# EAGLE library part ICM7228A (library RadioStack_v2)
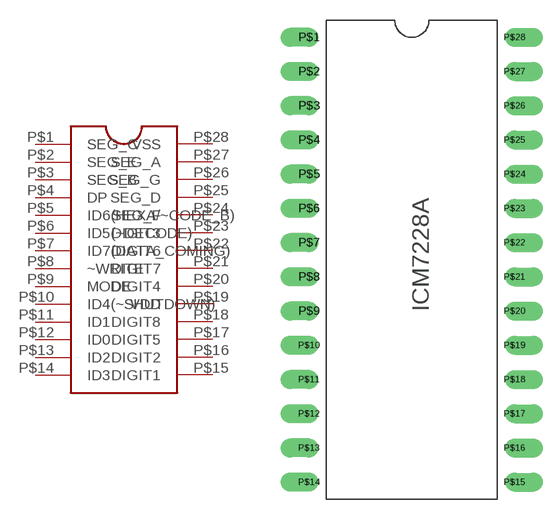
[diagram p9: symbol with the pads of ICM7228A; footprint ICM7228A]

Designator prefix -

## ICM7228A  [ICM7228A]
P$1  SEG_C
P$2  SEG_E
P$3  SEG_B
P$4  DP
P$5  ID6(HEXA/~CODE_B)
P$6  ID5(~DECODE)
P$7  ID7(DATA_COMING)
P$8  ~WRITE
P$9  MODE
P$10  ID4(~SHUTDOWN)
P$11  ID1
P$12  ID0
P$13  ID2
P$14  ID3
P$15  DIGIT1
P$16  DIGIT2
P$17  DIGIT5
P$18  DIGIT8
P$19  VDD
P$20  DIGIT4
P$21  DIGIT7
P$22  DIGIT6
P$23  DIGIT3
P$24  SEG_F
P$25  SEG_D
P$26  SEG_G
P$27  SEG_A
P$28  VSS

## Footprint ICM7228A (pad centres in mm)
drill 0.889 pad 1.27 offset: P$1 0,0; P$2 0,-2.54
drill 0.889 offset: P$3 0,-5.08; P$4 0,-7.62; P$5 0,-10.16; P$6 0,-12.7; P$7 0,-15.24; P$8 0,-17.78; P$9 0,-20.32; P$10 0,-22.86; P$11 0,-25.4; P$12 0,-27.94; P$13 0,-30.48; P$14 0,-33.02; P$15 15.24,-33.02; P$16 15.24,-30.48; P$17 15.24,-27.94; P$18 15.24,-25.4; P$19 15.24,-22.86; P$20 15.24,-20.32; P$21 15.24,-17.78; P$22 15.24,-15.24; P$23 15.24,-12.7; P$24 15.24,-10.16; P$25 15.24,-7.62; P$26 15.24,-5.08; P$27 15.24,-2.54; P$28 15.24,0